# Altium schematic symbol library LineFollowerSensor.SchLib: 5 symbols
Pins are listed as number, name and electrical type; pins without a type are passive.

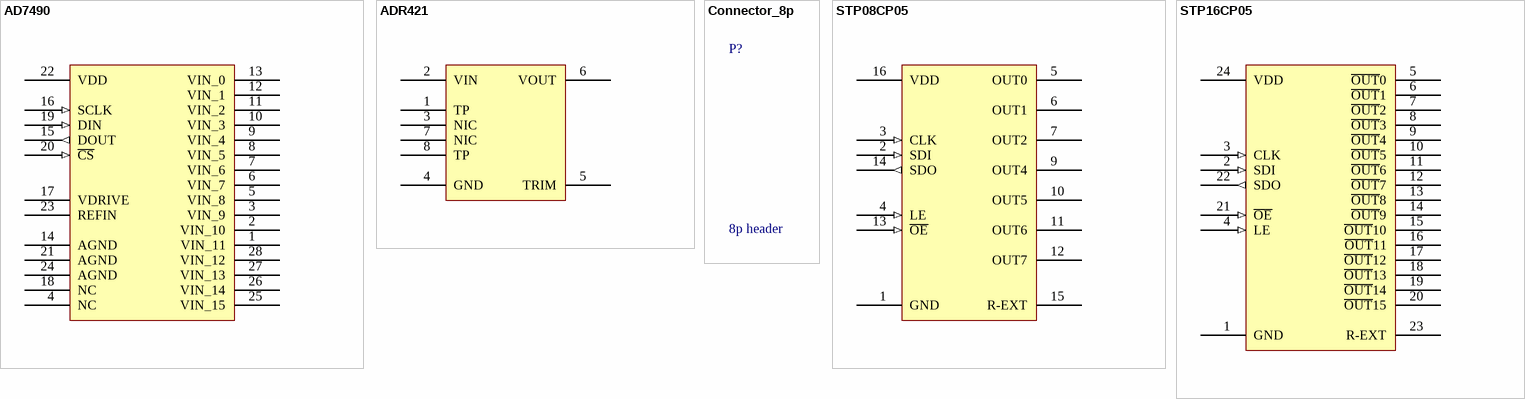
[diagram p0: symbols AD7490 to STP16CP05]

## AD7490
designator U?
16 channel analog digital converter; Vin - range: 0-5V; Supplier: Analog Devcies - sample
footprint TSSOP28 (TSOP, 28-Leads, Body 9,8x4,5mm (max), Pitch 0,65mm, IPC Medium Density)
pins: 1 VIN_11, 2 VIN_10, 3 VIN_9, 4 NC (power), 5 VIN_8, 6 VIN_7, 7 VIN_6, 8 VIN_5, 9 VIN_4, 10 VIN_3, 11 VIN_2, 12 VIN_1, 13 VIN_0, 14 AGND (power), 15 DOUT (out), 16 SCLK (in), 17 VDRIVE (power), 18 NC (power), 19 DIN (in), 20 ~{CS} (in), 21 AGND (power), 22 VDD (power), 23 REFIN (power), 24 AGND (power), 25 VIN_15 (power), 26 VIN_14 (power), 27 VIN_13 (power), 28 VIN_12 (power)

## ADR421
designator U?
Reference voltage generator; Output voltage: 2.5V; Supplier: Analog Devices - sample
footprint SOIC8 (SOIC, 8-Leads, Body 5,0x4,0mm (max), Pitch 1,27mm, IPC Medium Density)
pins: 1 TP, 2 VIN (power), 3 NIC, 4 GND (power), 5 TRIM, 6 VOUT (power), 7 NIC, 8 TP

## Connector_8p
designator P?, comment 8p header

## STP08CP05
designator U?
8 channel constant current LED driver; Output current: 5-100mA; f max: 30MHz; Supplier: központilag
footprint TSSOP16 (TSOP, 16-Leads, Body 5,1x4,5mm (max), Pitch 0,65mm, IPC Medium Density)
pins: 1 GND (power), 2 SDI (in), 3 CLK (in), 4 LE (in), 5 OUT0 (oc), 6 OUT1 (oc), 7 OUT2 (oc), 9 OUT4 (oc), 10 OUT5 (oc), 11 OUT6 (oc), 12 OUT7 (oc), 13 ~{OE} (in), 14 SDO (out), 15 R-EXT, 16 VDD (power)

## STP16CP05
designator U?
16 channel constant current LED driver; Output current: 5-100mA; f max: 30MHz; Supplier: minta
footprint TSSOP24 (TSOP, 24-Leads, Body 7,9x4,5mm (max), Pitch 0,65mm, IPC Medium Density)
pins: 1 GND (power), 2 SDI (in), 3 CLK (in), 4 LE (in), 5 ~{OUT}0 (oc), 6 ~{OUT}1 (oc), 7 ~{OUT}2 (oc), 8 ~{OUT}3 (oc), 9 ~{OUT}4 (oc), 10 ~{OUT}5 (oc), 11 ~{OUT}6 (oc), 12 ~{OUT}7 (oc), 13 ~{OUT}8 (oc), 14 ~{OUT}9 (oc), 15 ~{OUT}10 (oc), 16 ~{OUT}11 (oc), 17 ~{OUT}12 (oc), 18 ~{OUT}13 (oc), 19 ~{OUT}14 (oc), 20 ~{OUT}15 (oc), 21 ~{OE} (in), 22 SDO (out), 23 R-EXT, 24 VDD (power)